# Altium footprint library IC.PcbLib: 99 footprints (part 1 of 7)
Each footprint in its own frame and in the unit in brackets; x right, y up, seen from the top. Pads: shape width x height; smd on the part's side, far side on the other; paste and mask are expansions set on the pad; w line width, h text height; cw(c..) or ccw(c..) is an arc to the next point about the centre after c.
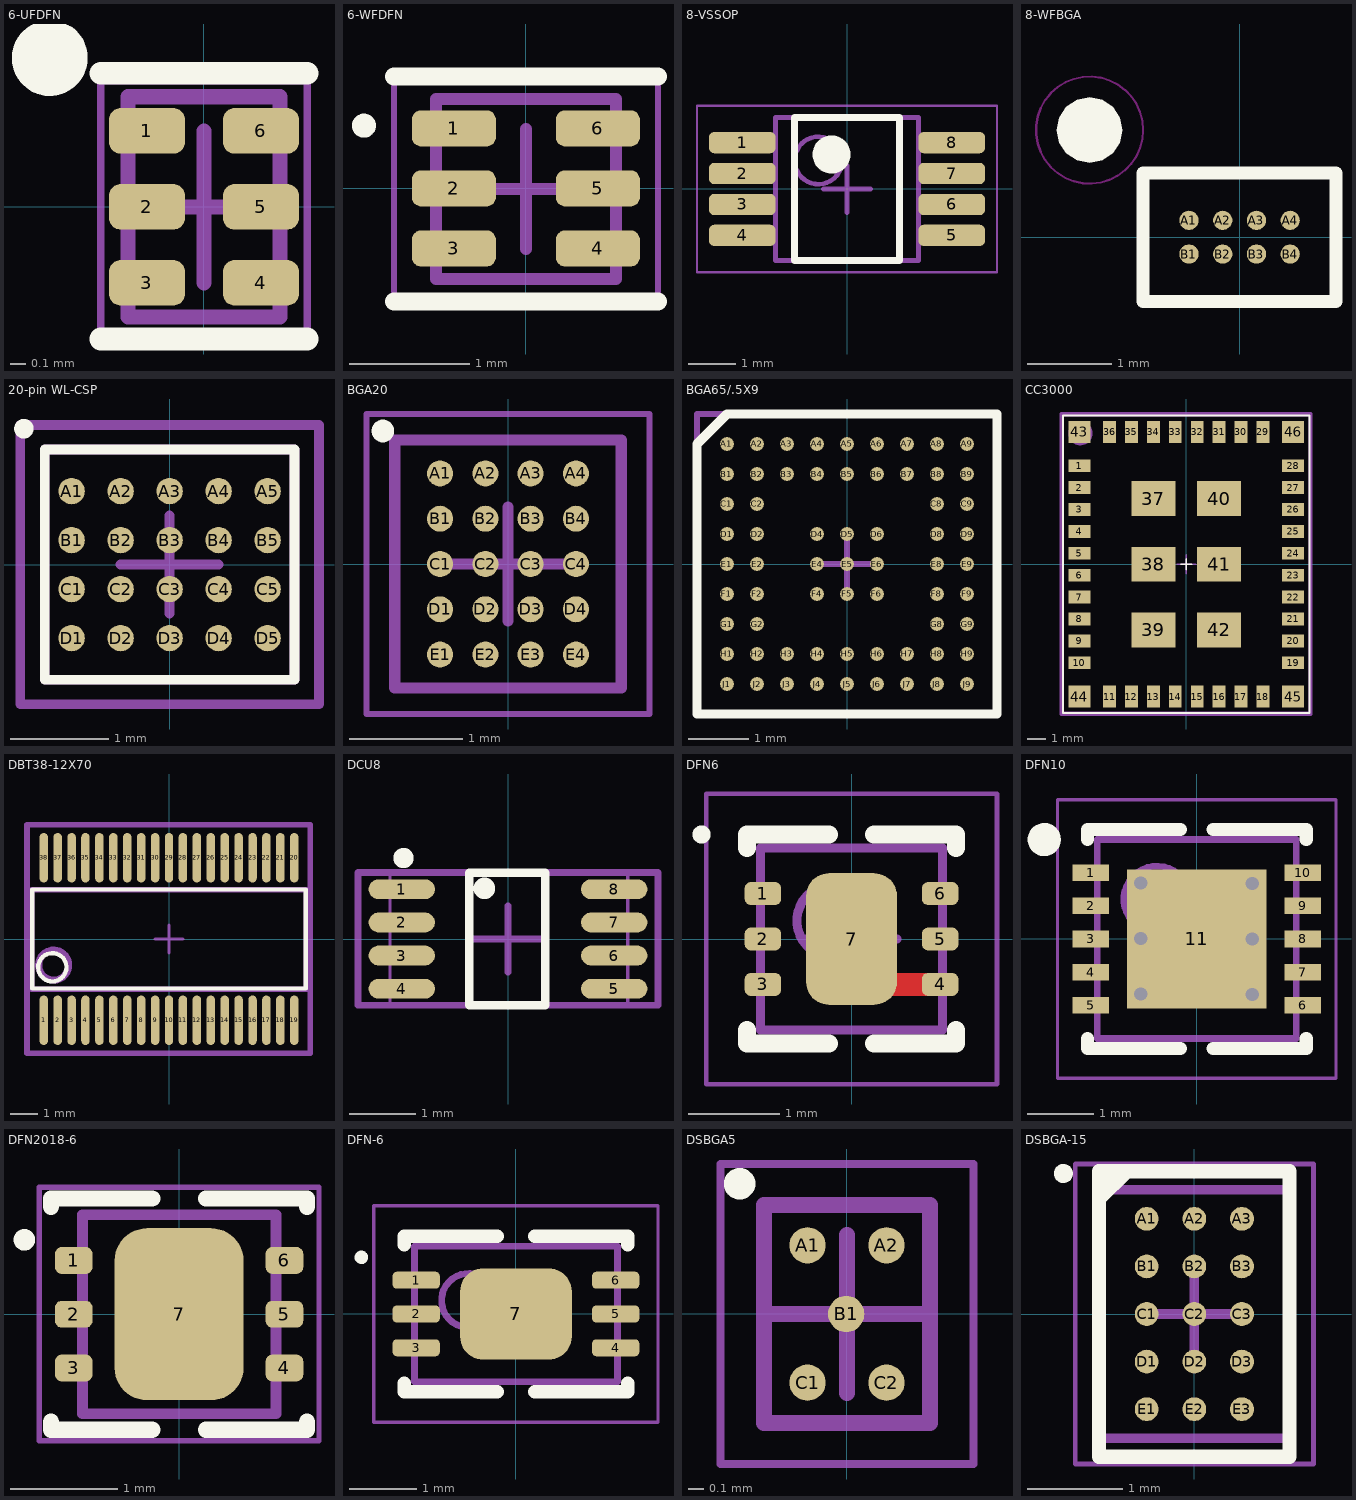
[diagram p0: the footprints below, top view; thin cyan lines are the x and y axes]

## 6-UFDFN [mm]
height 0.55
pads (6):
  rrect50% 0.5x0.3 smd mask+0.05: 1(-0.375,0.5) 2(-0.375,0) 3(-0.375,-0.5) 4(0.375,-0.5) 5(0.375,0) 6(0.375,0.5)
Top Overlay:
  circle w0.25: c-1.015,0.98 r0.125
  lines w0.15: -0.68,-0.87 0.68,-0.87 ; -0.68,0.88 0.68,0.88
Mechanical 13:
  lines w0.1: -0.5,-0.725 0.5,-0.725 0.5,0.725 -0.5,0.725 -0.5,-0.725
Mechanical 15:
  lines w0.05: -0.68,-0.83 -0.68,0.83 0.68,0.83 0.68,-0.83 -0.68,-0.83
  lines w0.1: -0.5,0 0.5,0 ; 0,-0.5 0,0.5
3D body: height 0.55, standoff 0, extent -0.5,-0.725 0.5,0.725

## 6-WFDFN [mm]
height 0.8
pads (6):
  rrect50% 0.7x0.3 smd mask+0.05: 1(-0.6,0.5) 2(-0.6,0) 3(-0.6,-0.5) 4(0.599,-0.5) 5(0.599,0) 6(0.599,0.5)
Top Overlay:
  circle w0.1: c-1.348,0.522 r0.05
  lines w0.15: -1.1,-0.94 1.1,-0.94 ; -1.1,0.93 1.1,0.93
Mechanical 13:
  lines w0.1: -0.75,-0.755 0.75,-0.755 0.75,0.745 -0.75,0.745 -0.75,-0.755
Mechanical 15:
  lines w0.05: -1.1,-0.91 -1.1,0.9 1.1,0.9 1.1,-0.91 -1.1,-0.91
  lines w0.1: -0.5,-0.005 0.5,-0.005 ; 0,-0.505 0,0.495
3D body: height 0.8, standoff 0.2, extent -0.775,-0.78 0.775,0.77

## 8-VSSOP [mm]
height 1.1
pads (8):
  rrect50% 1.4x0.45 smd mask+0.075: 1(-2.2,0.975) 2(-2.2,0.325) 3(-2.2,-0.325) 4(-2.2,-0.975) 5(2.2,-0.975) 6(2.2,-0.325) 7(2.2,0.325) 8(2.2,0.975)
Top Overlay:
  circle w0.4: c-0.325,0.725 r0.2
  lines w0.15: -1.1,-1.5 1.1,-1.5 1.1,1.5 -1.1,1.5 -1.1,-1.5
Mechanical 13:
  circle w0.1: c-0.6,0.6 r0.5
  lines w0.1: -1.5,-1.5 1.5,-1.5 1.5,1.5 -1.5,1.5 -1.5,-1.5
  text ".Designator" at -1.787,1.821 h0.5
Mechanical 15:
  lines w0.05: -3.15,-1.75 3.15,-1.75 3.15,1.75 -3.15,1.75 -3.15,-1.75
  lines w0.1: -0.5,0 0.5,0 ; 0,-0.5 0,0.5
3D body: height 1.1, standoff 0.1, extent -1.5,-1.5 1.5,1.5

## 8-WFBGA [mil] "MAX17048"
pads (8):
  round 9 smd: A1(-23.62,7.87) A2(-7.87,7.87) A3(7.87,7.87) A4(23.62,7.87) B1(-23.62,-7.87) B2(-7.87,-7.87) B3(7.87,-7.87) B4(23.62,-7.87)
Top Layer keep-out:
  circle w1: c-70,50 r25
Top Overlay:
  pour cut-out: -70,65.29 -75.85,64.13 -80.81,60.81 -84.13,55.85 -85.29,50 -84.13,44.15 -80.81,39.19 -75.85,35.87 -70,34.71 -64.15,35.87 -59.19,39.19 -55.87,44.15 -54.71,50 -55.87,55.85 -59.19,60.81 -64.15,64.13
  lines w6: -45,-30 45,-30 45,30 -45,30 -45,-30
Mechanical 13:
  text ".Designator" at -83.37,41.69 h19.68

## 20-pin WL-CSP [mm] "BGA, 20-Leads, Body 2.4x2.5mm,  Pitch 0.50mm"
height 0.6
pads (20):
  round 0.27 smd: A1(-1,0.75) A2(-0.5,0.75) A3(0,0.75) A4(0.5,0.75) A5(1,0.75) B1(-1,0.25) B2(-0.5,0.25) B3(0,0.25) B4(0.5,0.25) B5(1,0.25) C1(-1,-0.25) C2(-0.5,-0.25) C3(0,-0.25) C4(0.5,-0.25) C5(1,-0.25) D1(-1,-0.75) D2(-0.5,-0.75) D3(0,-0.75) D4(0.5,-0.75) D5(1,-0.75)
Top Overlay:
  circle w0.1: c-1.487,1.387 r0.05
  lines w0.1: -1.275,-1.175 1.275,-1.175 1.275,1.175 -1.275,1.175 -1.275,-1.175
Mechanical 13:
  lines w0.1: -1.275,-1.175 1.275,-1.175 1.275,1.175 -1.275,1.175 -1.275,-1.175
  text ".Designator" at -1.813,1.516 h0.5
Mechanical 15:
  lines w0.1: -0.5,0 0.5,0 ; 0,-0.5 0,0.5 ; -1.525,-1.425 1.525,-1.425 1.525,1.425 -1.525,1.425 -1.525,-1.425
3D body: height 0.6, standoff 0.24, extent -1.275,-1.175 1.275,1.175

## BGA20 [mm] "BGA20"
height 0.63
pads (20):
  round 0.23 smd mask+0.05: A1(-0.6,0.8) A2(-0.2,0.8) A3(0.2,0.8) A4(0.6,0.8) B1(-0.6,0.4) B2(-0.2,0.4) B3(0.2,0.4) B4(0.6,0.4) C1(-0.6,0) C2(-0.2,0) C3(0.2,0) C4(0.6,0) D1(-0.6,-0.4) D2(-0.2,-0.4) D3(0.2,-0.4) D4(0.6,-0.4) E1(-0.6,-0.8) E2(-0.2,-0.8) E3(0.2,-0.8) E4(0.6,-0.8)
Top Overlay:
  circle w0.1: c-1.105,1.175 r0.05
Mechanical 13:
  lines w0.1: -1,-1.095 1,-1.095 ; -1,-1.07 -1,1.07 ; -1,1.095 1,1.095 ; 1,-1.07 1,1.07
Mechanical 15:
  lines w0.05: -1.25,-1.325 -1.25,1.325 1.25,1.325 1.25,-1.325 -1.25,-1.325
  lines w0.1: -0.5,0 0.5,0 ; 0,-0.5 0,0.5
3D body: height 0.63, standoff 0.2, extent -1,-1.07 1,1.07

## BGA65/.5X9 [mil]
pads (65):
  round 9 smd mask+2.76: A1(-78.74,78.74) A2(-59.06,78.74) A3(-39.37,78.74) A4(-19.68,78.74) A5(0,78.74) A6(19.68,78.74) A7(39.37,78.74) A8(59.06,78.74) A9(78.74,78.74) B1(-78.74,59.06) B2(-59.06,59.06) B3(-39.37,59.06) B4(-19.68,59.06) B5(0,59.06) B6(19.68,59.06) B7(39.37,59.06) B8(59.06,59.06) B9(78.74,59.06) C1(-78.74,39.37) C2(-59.06,39.37) C8(59.06,39.37) C9(78.74,39.37) D1(-78.74,19.68) D2(-59.06,19.68) D4(-19.68,19.68) D5(0,19.68) D6(19.68,19.68) D8(59.06,19.68) D9(78.74,19.68) E1(-78.74,0) E2(-59.06,0) E4(-19.68,0) E5(0,0) E6(19.68,0) E8(59.06,0) E9(78.74,0) F1(-78.74,-19.68) F2(-59.06,-19.68) F4(-19.68,-19.68) F5(0,-19.68) F6(19.68,-19.68) F8(59.06,-19.68) F9(78.74,-19.68) G1(-78.74,-39.37) G2(-59.06,-39.37) G8(59.06,-39.37) G9(78.74,-39.37) H1(-78.74,-59.06) H2(-59.06,-59.06) H3(-39.37,-59.06) H4(-19.68,-59.06) H5(0,-59.06) H6(19.68,-59.06) H7(39.37,-59.06) H8(59.06,-59.06) H9(78.74,-59.06) J1(-78.74,-78.74) J2(-59.06,-78.74) J3(-39.37,-78.74) J4(-19.68,-78.74) J5(0,-78.74) J6(19.68,-78.74) J7(39.37,-78.74) J8(59.06,-78.74) J9(78.74,-78.74)
Top Overlay:
  lines w6: -98.43,-98.43 98.43,-98.43 98.43,98.43 -78.74,98.43 -98.43,78.74 -98.43,-98.43
Mechanical 13:
  lines w3.94: -98.43,-98 98,-98 98,98.43 -78.74,98.43 -98.43,78.74 -98.43,-98
  text ".Designator" at -73,109 h19.68
Mechanical 15:
  lines w3.94: -19.68,0 19.69,0 ; 0,-19.69 0,19.68 ; -98.43,-98.43 -98.43,98.43 98.43,98.43 98.43,-98.43 -98.43,-98.43
3D body: height 47.24, standoff 0, extent -98.43,-98 98,98.43

## CC3000 [mm]
pads (46):
  rect 1.2x0.7 smd mask+0.03: 1(-5.85,5.4) 2(-5.85,4.2) 3(-5.85,3) 4(-5.85,1.8) 5(-5.85,0.6) 6(-5.85,-0.6) 7(-5.85,-1.8) 8(-5.85,-3) 9(-5.85,-4.2) 10(-5.85,-5.4) 19(5.85,-5.4) 20(5.85,-4.2) 21(5.85,-3) 22(5.85,-1.8) 23(5.85,-0.6) 24(5.85,0.6) 25(5.85,1.8) 26(5.85,3) 27(5.85,4.2) 28(5.85,5.4)
  rect 0.7x1.2 smd mask+0.03: 11(-4.2,-7.25) 12(-3,-7.25) 13(-1.8,-7.25) 14(-0.6,-7.25) 15(0.6,-7.25) 16(1.8,-7.25) 17(3,-7.25) 18(4.2,-7.25) 29(4.2,7.25) 30(3,7.25) 31(1.8,7.25) 32(0.6,7.25) 33(-0.6,7.25) 34(-1.8,7.25) 35(-3,7.25) 36(-4.2,7.25)
  rect 2.4x1.9 smd mask+0.03: 37(-1.8,3.6) 38(-1.8,0) 39(-1.8,-3.6) 40(1.8,3.6) 41(1.8,0) 42(1.8,-3.6)
  rect 1.2x1.2 smd mask+0.03: 43(-5.85,7.25) 44(-5.85,-7.25) 45(5.85,-7.25) 46(5.85,7.25)
Top Overlay:
  lines w0.102: -0.3,0 0.3,0 ; 0,-0.3 0,0.3 ; -6.75,-8.15 6.75,-8.15 ; -6.75,-8.15 -6.75,8.15 ; -6.75,-8.15 6.75,-8.15 ; -6.75,-8.15 -6.75,8.15 ; -6.75,8.15 6.75,8.15 ; -6.75,8.15 6.75,8.15 ; 6.75,-8.15 6.75,8.15 ; 6.75,-8.15 6.75,8.15
Mechanical 13:
  circle w0.254: c-5.797,7.176 r0.539
  lines w0.2: -6.833,-8.204 -6.833,8.23 6.807,8.23 6.807,-8.204 -6.833,-8.204
  text ".Designator" at -1.838,4.399 h0.5
Mechanical 15:
  lines w0.1: -0.5,0 0.5,0 ; 0,-0.5 0,0.5
  lines w0.2: -6.807,-8.179 6.807,-8.179 6.807,8.204 -6.807,8.204 -6.807,-8.179
3D body: height 3, standoff 0.3, extent -6.833,-8.204 6.807,8.23

## DBT38-12X70 [mil] "DBT38-12X70"
pads (38):
  oval 12x70 smd: 1(-177.3,-115) 2(-157.6,-115) 3(-137.9,-115) 4(-118.2,-115) 5(-98.5,-115) 6(-78.8,-115) 7(-59.1,-115) 8(-39.4,-115) 9(-19.7,-115) 10(0,-115) 11(19.7,-115) 12(39.4,-115) 13(59.1,-115) 14(78.8,-115) 15(98.5,-115) 16(118.2,-115) 17(137.9,-115) 18(157.6,-115) 19(177.3,-115) 20(177.3,115) 21(157.6,115) 22(137.9,115) 23(118.2,115) 24(98.5,115) 25(78.8,115) 26(59.1,115) 27(39.4,115) 28(19.7,115) 29(0,115) 30(-19.7,115) 31(-39.4,115) 32(-59.1,115) 33(-78.8,115) 34(-98.5,115) 35(-118.2,115) 36(-137.9,115) 37(-157.6,115) 38(-177.3,115)
Top Overlay:
  lines w6: -145.19,-38.76 ccw(c-165.16,-40.01) -145.16,-40.01 ; -193.4,-70 -193.4,70 193.4,70 193.4,-70 -193.4,-70
Mechanical 13:
  circle w10: c-163.21,-37 r21.21
  lines w7.87: -194,-71 194,-71 194,70 -194,70 -194,-71
  text ".Designator" at -72.37,172.69 h19.68
Mechanical 15:
  lines w3.94: -19.68,-0.05 19.69,-0.05 ; 0,-19.74 0,19.63
  lines w7.87: -201,-162 -201,162 200,162 200,-162 -201,-162
3D body: height 118.11, standoff 11.81, extent -194,-71 194,70

## DCU8 [mm] "SM8 (DCT)"
pads (8):
  oval 1x0.3 smd: 1(-1.6,0.75) 2(-1.6,0.25) 3(-1.6,-0.25) 4(-1.6,-0.75) 5(1.6,-0.75) 6(1.6,-0.25) 7(1.6,0.25) 8(1.6,0.75)
Top Overlay:
  circle w0.254: c-0.356,0.763 r0.036
  circle w0.254: c-1.575,1.22 r0.025
  lines w0.127: -0.584,-1 0.559,-1 0.559,1.001 -0.584,1.001 -0.584,-1
Mechanical 13:
  lines w0.051: -1.778,-1 -1.778,1.001 1.803,1.001 1.803,-1 -1.778,-1
  text ".Designator" at -1.778,1.295 h0.5
Mechanical 15:
  lines w0.1: -0.5,0.001 0.5,0.001 ; 0,-0.499 0,0.501 ; -2.261,-1 -2.261,1.001 2.261,1.001 2.261,-1 -2.261,-1
3D body: height 0.7, standoff 0, extent -1.698,-0.999 1.698,1.001

## DFN6 [mm]
height 0.55
pads (7):
  rrect50% 0.4x0.25 smd mask+0.07: 1(-0.975,0.5) 2(-0.975,0) 3(-0.975,-0.5) 4(0.975,-0.5) 5(0.975,0) 6(0.975,0.5)
  rrect50% 1x1.45 smd mask+0.07: 7(0,0)
Top Layer:
  rectangle: 0.4,-0.625 0.875,-0.375
Top Overlay:
  circle w0.1: c-1.65,1.15 r0.05
  lines w0.2: -1.15,-1 -1.15,-1.15 -0.25,-1.15 ; -1.15,1 -1.15,1.15 -0.25,1.15 ; 0.25,-1.15 1.15,-1.15 1.15,-1 ; 0.25,1.15 1.15,1.15 1.15,1
Mechanical 13:
  circle w0.1: c-0.2,0.2 r0.4
  lines w0.1: -1,-1 1,-1 1,1 -1,1 -1,-1
  text ".Designator" at -1.838,1.541 h0.5
Mechanical 15:
  lines w0.05: -1.6,-1.6 1.6,-1.6 1.6,1.6 -1.6,1.6 -1.6,-1.6
  lines w0.1: -0.5,0 0.5,0 ; 0,-0.5 0,0.5
3D body: height 0.75, standoff -0.05, extent -1.05,-1 1.05,1

## DFN10 [mm] "DFN10 (3x3mm)"
height 0.9
pads (11):
  rect 0.55x0.25 smd mask+0.08: 1(-1.6,1) 2(-1.6,0.5) 3(-1.6,0) 4(-1.6,-0.5) 5(-1.6,-1) 6(1.6,-1) 7(1.6,-0.5) 8(1.6,0) 9(1.6,0.5) 10(1.6,1)
  rect 2.1x2.1 smd paste-2.54 mask-2.54: 11(0,0)
via -0.846,0.846 diameter 0.4 hole 0.2
via -0.846,0.008 diameter 0.4 hole 0.2
via -0.846,-0.831 diameter 0.4 hole 0.2
via 0.838,-0.838 diameter 0.4 hole 0.2
via 0.838,0 diameter 0.4 hole 0.2
via 0.838,0.838 diameter 0.4 hole 0.2
Top Overlay:
  circle w0.25: c-2.3,1.5 r0.125
  lines w0.2: -1.65,-1.5 -1.65,-1.65 -0.25,-1.65 ; -1.65,1.5 -1.65,1.65 -0.25,1.65 ; 0.25,-1.65 1.65,-1.65 1.65,-1.5 ; 0.25,1.65 1.65,1.65 1.65,1.5
Top Paste:
  rectangle: -0.66,-1.041 0.66,1.041
Top Solder:
  rectangle: -0.66,-1.041 0.66,1.041
Mechanical 13:
  circle w0.1: c-0.6,0.6 r0.5
  lines w0.1: -1.5,-1.5 1.5,-1.5 1.5,1.5 -1.5,1.5 -1.5,-1.5
  text ".Designator" at -1.813,2.303 h0.5
Mechanical 15:
  lines w0.05: -2.1,-2.1 2.1,-2.1 2.1,2.1 -2.1,2.1 -2.1,-2.1
  lines w0.1: -0.5,0 0.5,0 ; 0,-0.5 0,0.5
3D body: height 0.9, standoff 0.02, extent -1.5,-1.5 1.5,1.5

## DFN2018-6 [mm]
height 0.6
pads (7):
  rrect50% 0.35x0.25 smd mask+0.07: 1(-0.981,0.498) 2(-0.981,-0.002) 3(-0.981,-0.502) 4(0.979,-0.502) 5(0.979,-0.002) 6(0.979,0.498)
  rrect50% 1.2x1.6 smd mask+0.07: 7(-0.001,-0.002)
Top Overlay:
  circle w0.1: c-1.44,0.69 r0.05
  lines w0.15: -1.191,-1.002 -1.191,-1.077 -0.251,-1.077 ; -1.191,0.998 -1.191,1.073 -0.251,1.073 ; 0.249,-1.077 1.189,-1.077 1.189,-1.002 ; 0.249,1.073 1.189,1.073 1.189,0.998
Mechanical 13:
  lines w0.1: -0.9,-0.927 -0.9,0.923 0.9,0.923 0.9,-0.927 -0.9,-0.927
Mechanical 15:
  lines w0.05: -1.3,-1.18 -1.3,1.18 1.3,1.18 1.3,-1.18 -1.3,-1.18
  lines w0.1: -0.501,-0.002 0.499,-0.002 ; -0.001,-0.502 -0.001,0.498
3D body: height 0.6, standoff 0.13, extent -0.9,-0.927 0.9,0.923

## DFN-6 [mm]
height 0.75
pads (7):
  rrect50% 0.7x0.25 smd mask+0.04: 1(-1.475,0.5) 2(-1.475,0) 3(-1.475,-0.5) 4(1.475,-0.5) 5(1.475,0) 6(1.475,0.5)
  rrect50% 1.65x1.35 smd mask+0.02: 7(0,0)
Top Overlay:
  circle w0.1: c-2.285,0.838 r0.05
  lines w0.2: -1.65,-1.025 -1.65,-1.15 -0.275,-1.15 ; -1.65,1.025 -1.65,1.15 -0.275,1.15 ; 0.275,-1.15 1.65,-1.15 1.65,-1.025 ; 0.275,1.15 1.65,1.15 1.65,1.025
Mechanical 13:
  circle w0.1: c-0.7,0.2 r0.4
  lines w0.1: -1.5,-1 1.5,-1 1.5,1 -1.5,1 -1.5,-1
Mechanical 15:
  lines w0.05: -2.1,-1.6 2.1,-1.6 2.1,1.6 -2.1,1.6 -2.1,-1.6
  lines w0.1: -0.5,0 0.5,0 ; 0,-0.5 0,0.5
3D body: height 0.8, standoff 0, extent -1.495,-1 1.505,1

## DSBGA5 [mm] "DSBGA5"
height 0.6
pads (5):
  round 0.23 smd mask+0.08: A1(-0.25,0.435) A2(0.25,0.435) B1(-0.005,0) C1(-0.25,-0.435) C2(0.25,-0.435)
Top Overlay:
  circle w0.1: c-0.68,0.825 r0.05
Mechanical 13:
  lines w0.1: -0.525,-0.69 -0.525,0.69 0.525,0.69 0.525,-0.69 -0.525,-0.69
Mechanical 15:
  lines w0.05: -0.8,-0.95 -0.8,0.95 0.8,0.95 0.8,-0.95 -0.8,-0.95
  lines w0.1: -0.5,0 0.5,0 ; 0,-0.5 0,0.5
3D body: height 0.6, standoff 0.23, extent -0.525,-0.69 0.525,0.69

## DSBGA-15 [mm] "System-Side Impedance Track™ Fuel Gauge With Integrated LDO"
height 0.63
pads (15):
  round 0.25 smd: A1(-0.5,1) A2(0,1) A3(0.5,1) B1(-0.5,0.5) B2(0,0.5) B3(0.5,0.5) C1(-0.5,0) C2(0,0) C3(0.5,0) D1(-0.5,-0.5) D2(0,-0.5) D3(0.5,-0.5) E1(-0.5,-1) E2(0,-1) E3(0.5,-1)
Top Overlay:
  circle w0.1: c-1.375,1.475 r0.05
  region: -0.707,1.5 -1,1.207 -1,1.5
  lines w0.15: -1,1.207 -0.707,1.5 ; -1,-1.5 1,-1.5 1,1.5 -1,1.5 -1,-1.5
Mechanical 13:
  lines w0.1: -0.98,-1.305 0.98,-1.305 0.98,1.305 -0.98,1.305 -0.98,-1.305
  text ".Designator" at -1.838,1.795 h0.5
Mechanical 15:
  lines w0.05: -1.25,-1.575 1.25,-1.575 1.25,1.575 -1.25,1.575 -1.25,-1.575
  lines w0.1: -0.5,0 0.5,0 ; 0,-0.5 0,0.5
3D body: height 0.63, standoff 0.25, extent -0.98,-1.305 0.98,1.305